# EAGLE library part CBT16211DDG (library busswitch)
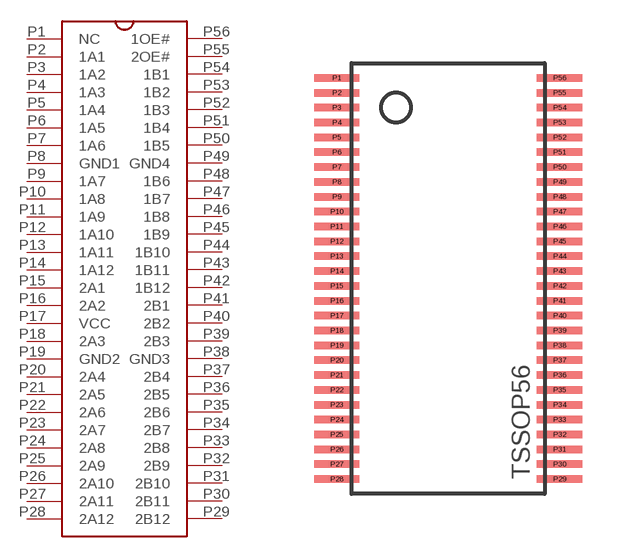
[diagram p3: symbol with the pads of TSSOP56; footprint TSSOP56]

Designator prefix -

## CBT16211DDG  [TSSOP56]
P1  NC  nc
P2  1A1
P3  1A2
P4  1A3
P5  1A4
P6  1A5
P7  1A6
P8  GND1  pwr
P9  1A7
P10  1A8
P11  1A9
P12  1A10
P13  1A11
P14  1A12
P15  2A1
P16  2A2
P17  VCC  pwr
P18  2A3
P19  GND2  pwr
P20  2A4
P21  2A5
P22  2A6
P23  2A7
P24  2A8
P25  2A9
P26  2A10
P27  2A11
P28  2A12
P29  2B12
P30  2B11
P31  2B10
P32  2B9
P33  2B8
P34  2B7
P35  2B6
P36  2B5
P37  2B4
P38  GND3  pwr
P39  2B3
P40  2B2
P41  2B1
P42  1B12
P43  1B11
P44  1B10
P45  1B9
P46  1B8
P47  1B7
P48  1B6
P49  GND4  pwr
P50  1B5
P51  1B4
P52  1B3
P53  1B2
P54  1B1
P55  2OE#  in
P56  1OE#  in

## Footprint TSSOP56 (pad centres in mm)
smd 1.524 x 0.254: P1 -5.5,7.5; P2 -5.5,7; P3 -5.5,6.5; P4 -5.5,6; P5 -5.5,5.5; P6 -5.5,5; P7 -5.5,4.5; P8 -5.5,4; P9 -5.5,3.5; P10 -5.5,3; P11 -5.5,2.5; P12 -5.5,2; P13 -5.5,1.5; P14 -5.5,1; P15 -5.5,0.5; P16 -5.5,0; P17 -5.5,-0.5; P18 -5.5,-1; P19 -5.5,-1.5; P20 -5.5,-2; P21 -5.5,-2.5; P22 -5.5,-3; P23 -5.5,-3.5; P24 -5.5,-4; P25 -5.5,-4.5; P26 -5.5,-5; P27 -5.5,-5.5; P28 -5.5,-6; P29 2,-6; P30 2,-5.5; P31 2,-5; P32 2,-4.5; P33 2,-4; P34 2,-3.5; P35 2,-3; P36 2,-2.5; P37 2,-2; P38 2,-1.5; P39 2,-1; P40 2,-0.5; P41 2,0; P42 2,0.5; P43 2,1; P44 2,1.5; P45 2,2; P46 2,2.5; P47 2,3; P48 2,3.5; P49 2,4; P50 2,4.5; P51 2,5; P52 2,5.5; P53 2,6; P54 2,6.5; P55 2,7; P56 2,7.5